# Altium schematic symbol library Schlib.SchLib: 44 symbols
Pins are listed as number, name and electrical type; pins without a type are passive.

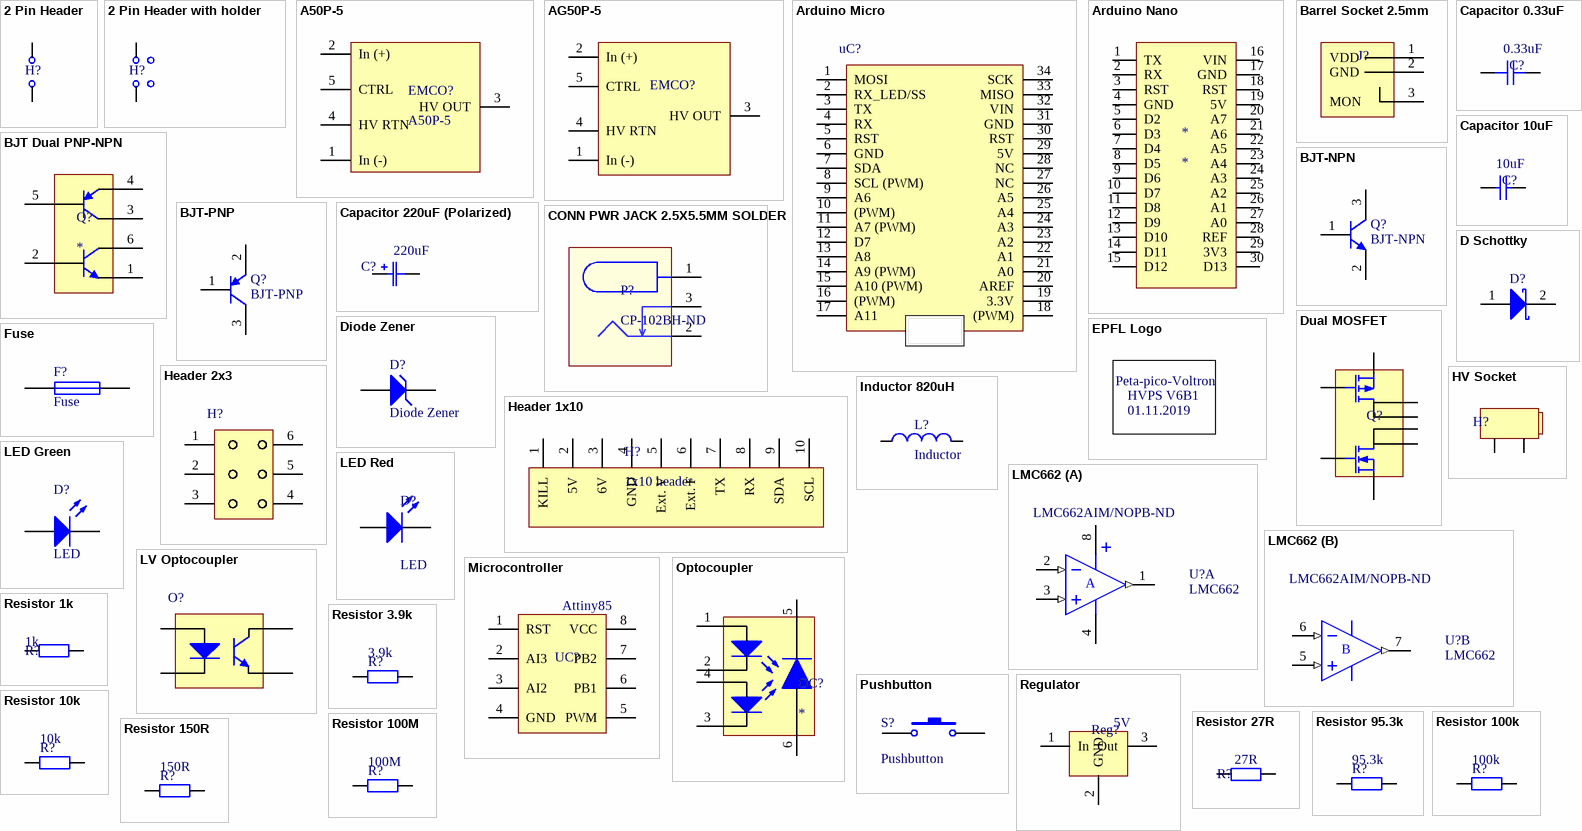
[diagram p0: symbols 2 Pin Header to Resistor 150R]

## 2 Pin Header
designator H?  (value not drawn)
Digikey: ‎SAM1121-02-ND‎ / Manufacturer: ‎SSA-102-S-G‎
footprint Header 1x2
pins: 1, 2

## 2 Pin Header with holder
designator H?  (value not drawn)
Digikey: ‎732-5316-ND‎ / Manufacturer: ‎61300311121‎
footprint Header 1x2 with holder
pins: 1, 2

## A50P-5
designator EMCO?
Digikey:1470-3201-NDManufacturer: A50P-5
footprint A50P-100V-5000V
pins: 1 In (-), 2 In (+), 3 HV OUT, 4 HV RTN, 5 CTRL

## AG50P-5
designator EMCO?  (value not drawn)
footprint AG50P-5 (1470-3217-ND)
pins: 1 In (-), 2 In (+), 3 HV OUT, 4 HV RTN, 5 CTRL

## Arduino Micro
designator uC?  (value not drawn)
Digikey: ‎929974-01-36-ND‎ / Manufacturer: ‎929974-01-36‎
footprint Arduino Nano
pins: 1 MOSI, 2 RX_LED/SS, 3 TX, 4 RX, 5 RST, 6 GND, 7 SDA, 8 SCL (PWM), 9 A6, 10 (PWM), 11 A7 (PWM), 12 D7, 13 A8, 14 A9 (PWM), 15 A10 (PWM), 16 (PWM), 17 A11, 18 (PWM), 19 3.3V, 20 AREF, 21 A0, 22 A1, 23 A2, 24 A3, 25 A4, 26 A5, 27 NC, 28 NC, 29 5V, 30 RST, 31 GND, 32 VIN, 33 MISO, 34 SCK

## Arduino Nano
designator *
footprint Arduino Nano
pins: 1 TX, 2 RX, 3 RST, 4 GND, 5 D2, 6 D3, 7 D4, 8 D5, 9 D6, 10 D7, 11 D8, 12 D9, 13 D10, 14 D11, 15 D12, 16 VIN, 17 GND, 18 RST, 19 5V, 20 A7, 21 A6, 22 A5, 23 A4, 24 A3, 25 A2, 26 A1, 27 A0, 28 REF, 29 3V3, 30 D13

## Barrel Socket 2.5mm
designator J?  (value not drawn)
footprint Barrel Socket 2.5mm
pins: 1 VDD, 2 GND, 3 MON

## BJT Dual PNP-NPN
designator Q?
footprint SOT457
pins: 1 25, 2 21, 3 23, 4 22, 5, 6 24

## BJT-NPN
designator Q?
NPN Bipolar Transistor; Published: 8-Jun-2000; LatestRevisionDate: 17-Jul-2002; LatestRevisionNote: Re-released for DXP Platform.; PackageReference: TO-226-AA; Publisher: Altium Limited; PackageDescription: TO, Flat Index; 3 In-Line, Axial Leads; Body Dia. 4.8mm; Leads 0.55 x 0.51 mm (max); Code_JEDEC: TO-226-AA
footprint TO-226-AA (TO, Flat Index; 3 In-Line, Axial Leads; Body Dia. 4.8mm; Leads 0.55 x 0.51 mm (max))
simulation model NPN
signal-integrity model NPN
pins: 1 B, 2 E, 3 C

## BJT-PNP
designator Q?
PNP Bipolar Transistor; Published: 8-Jun-2000; LatestRevisionDate: 29-May-2009; LatestRevisionNote: IPC-7351 Footprint Added.; PackageVersion: Aug-1999; PackageReference: SOT-23B; Publisher: Altium Limited; PackageDescription: 3-Pin SOT-23 Package 0.95 mm Pitch, 2.4 mm Lead Span
footprint SOT-23B_N (SOT23, 3-Leads, Body 2.9x1.3mm, Pitch 0.95mm, Lead Span 2.4mm, IPC Medium Density)
footprint SOT-23B_L (SOT23, 3-Leads, Body 2.9x1.3mm, Pitch 0.95mm, Lead Span 2.4mm, IPC High Density)
footprint SOT-23B_M (SOT23, 3-Leads, Body 2.9x1.3mm, Pitch 0.95mm, Lead Span 2.4mm, IPC Low Density)
simulation model PNP
signal-integrity model PNP
pins: 1 B, 2 E, 3 C

## Capacitor 0.33uF
designator C?  value 0.33uF  (hidden comment: Capacitor 0.33uF)
‎399-1285-1-ND‎ Manufacturer: ‎C1206C334K3RACTU‎
footprint 1206 CAP
pins: 1, 2

## Capacitor 10uF
designator C?, comment value 10uF  (hidden comment: Capacitor 0.1uF)
1276-3038-6-ND / Manufacturer: CL31A106KAHNFNE
footprint 1206 CAP
pins: 1, 2

## Capacitor 220uF (Polarized)
designator C?  value 220uF  (hidden comment: Capacitor 220uF (Polarized))
Digikey: ‎399-8415-1-ND‎ / Manufacturer: ‎T491X227K016AT‎; Published: 8-Jun-2000; LatestRevisionDate: 17-Jul-2002; LatestRevisionNote: Re-released for DXP Platform.; PackageReference: RB7.6-15; Publisher: Altium Limited; PackageDescription: Polarized Capacitor (Radial); 2 Leads
footprint SMD 7343 - Pol
pins: 1, 2
1 alternate drawing of the same symbol

## CONN PWR JACK 2.5X5.5MM SOLDER
designator P?, comment CP-102BH-ND
Digikey: ‎CP-102BH-ND‎ / Manufacturer: ‎PJ-102BH‎
footprint CONN PWR JACK 2.5X5.5MM SOLDER (CP-102BH-ND)
pins: 1, 2, 3

## D Schottky
designator D?
Digikey: ‎497-5574-1-ND‎ / Manufacturer: ‎STPS2L40U‎; Published: 8-Jun-2000; LatestRevisionDate: 17-Jul-2002; LatestRevisionNote: Re-released for DXP Platform.; PackageReference: SMB; Publisher: Altium Limited; PackageDescription: DO-214-AA/SMB; 2 C-Bend Leads; Body 5.3 x 3.6 mm, inc. leads (LxW); Code_JEDEC: DO-214-AA
footprint Schottky Diode
pins: 1 A, 2 K

## Diode Zener
designator D?
Zener Diode; Published: 8-Jun-2000; LatestRevisionDate: 17-Jul-2002; LatestRevisionNote: Re-released for DXP Platform.; PackageReference: DIODE-0.7; Publisher: Altium Limited; PackageDescription: Diode, Thru-Hole; 2 Leads; 0.7 in Pin Spacing
footprint DIODE-0.7 (Diode, Thru-Hole; 2 Leads; 0.7 in Pin Spacing)
simulation model ZENER (Diode)
signal-integrity model D Zener
pins: 1 A, 2 K

## Dual MOSFET
designator Q?  (value not drawn)
footprint SO-8
pins: 1, 2, 3, 4, 5, 6, 7, 8

## EPFL Logo
designator *  (value not drawn)
footprint LOGO (Peta-Pico-voltron LOGO)
text: Peta-pico-Voltron; HVPS V6B1; 01.11.2019

## Fuse
designator F?
Published: 8-Jun-2000; LatestRevisionDate: 17-Jul-2002; LatestRevisionNote: Re-released for DXP Platform.; PackageReference: PIN-W2/E2.8; Publisher: Altium Limited; PackageDescription: Thru-Hole; 2 Leads
footprint PIN-W2/E2.8 (Thru-Hole; 2 Leads)
simulation model FUSE (Spice Subcircuit)
pins: 1, 2

## Header 1x10
designator H?, comment 1x10 header
Digikey: ‎3M156872-36-ND‎ / Manufacturer: ‎929835-01-36-RK‎
footprint Header 1x10
pins: 1 KILL, 2 5V, 3 6V, 4 GND, 5 Ext. V, 6 Ext. F, 7 TX, 8 RX, 9 SDA, 10 SCL

## Header 2x3
designator H?, comment 2x3 pin header  (value not drawn)
Digikey: ‎952-2120-ND‎ / Manufacturer: ‎M20-9980345‎
footprint Header 2x3
pins: 1, 2, 3, 4, 5, 6

## HV Socket
designator H?  (value not drawn)
Black: 486-3654-ND / Red: ‎486-3655-ND‎
footprint HV Socket 2mm
pins: 1, 2

## Inductor 820uH
designator L?, comment Inductor
Digikey: ‎732-1701-1-ND‎ / Manufacturer: ‎7447709821‎; Value: 820u
footprint INDUCTOR_SMT_12MM (TO SUIT SRR1260-681KCT-ND)
pins: 1, 2

## LED Green
designator D?, comment LED
‎‎67-1002-1-ND‎‎ / Manufacturer: ‎‎SML-LX1206GW-TR‎‎
footprint 1206 - LED
pins: 1 A, 2 K

## LED Red
designator D?, comment LED
‎67-1003-1-ND‎ / Manufacturer: ‎SML-LX1206IW-TR‎
footprint 1206 - LED
pins: 1 A, 2 K

## LMC662
designator U?  Supplier Part Number 1: LMC662AIM/NOPB-ND
Dual CMOS Operational Amplifier; Manufacturer: Texas Instruments; Manufacturer Part Number: LMC662AIM/NOPB; Amplifier Type: General Purpose; Number of Circuits: 2; Output Type: Rail-to-Rail; Slew Rate: 1.1 V/µs; Gain Bandwidth Product: 1.4MHz; Current - Input Bias: 0.002pA; Voltage - Input Offset: 1mV; Current - Supply: 750µA; Current - Output / Channel: 40mA; Voltage - Supply, Single/Dual (±): 4.75 V ~ 15.5 V, ±2.38 V ~ 7.75 V; Supplier 1: Digi-Key; RoHS: RoHS Compliant; Category: Integrated Circuits (ICs); Stock 1: 2736; Pricing 1: 1=3.05, 10=2.736, 100=2.1988, 500=1.80652, 1000=1.29038 (NZD); Packaging: Tube; -3db Bandwidth: -; Operating Temperature: -40°C ~ 85°C; Mounting Type: Surface Mount; Package / Case: 8-SOIC (0.154", 3.90mm Width); Supplier Device Package: 8-SOIC; ComponentLink1URL: http://www.ti.com/lit/ds/symlink/lmc662.pdf; ComponentLink1Description: http://www.ti.com/lit/ds/symlink/lmc662.pdf
footprint SO-8
part A pins: 1 OUT (out), 2 IN- (in), 3 IN+ (in), 4 V- (power), 8 V+ (power)
part B pins: 5 IN+ (in), 6 IN- (in), 7 OUT (out)
part A text: A
part B text: B

## LV Optocoupler
designator O?  (value not drawn)
pins: 1, 2, 3, 4

## Microcontroller
designator UC?  value Attiny85  (hidden comment: Microcontroller)
footprint DIP8
pins: 1 RST, 2 AI3, 3 AI2, 4 GND, 5 PWM, 6 PB1, 7 PB2, 8 VCC

## Optocoupler
designator OC?
Manufacturer: OC100G
footprint OC100G
pins: 1 A, 2 K, 3 K, 4 A, 5 K, 6 A

## Pushbutton
designator S?
Digikey: ‎SW791-ND‎ / Manufacturer: ‎B3FS-1050‎
footprint pushbutton
pins: 1, 2, 3, 4

## Regulator
designator Reg?, comment value 5V  (hidden comment: Positive Voltage Regulator)
Digikey: ‎NCP1117ST50T3GOSCT-ND‎ / Manufacturer: ‎NCP1117ST50T3G‎
footprint SOT223
pins: 1 In, 2 GND, 3 Out

## Resistor 1k
designator R?, comment value 1k  (hidden comment: Resistor)
‎541-2245-1-ND‎ / Manufacturer: ‎RCA12061K00FKEA‎
footprint 1206 R
pins: 1, 2

## Resistor 3.9k
designator R?, comment value 3.9k  (hidden comment: Resistor)
footprint SMD 3225
pins: 1, 2

## Resistor 10k
designator R?, comment value 10k  (hidden comment: Resistor)
311-10KERCT-ND / Manufacturer: RC1206JR-0710KL
footprint 1206 R
pins: 1, 2

## Resistor 27R
designator R?, comment value 27R  (hidden comment: Resistor)
Manufacturer ‎HRG3216Q-27R0-D-T1‎ / Digikey ‎408-1908-1-ND
footprint 1206 R
pins: 1, 2

## Resistor 95.3k
designator R?, comment value 95.3k  (hidden comment: Resistor)
‎311-95.3KFRCT-ND‎ / Manufacturer: ‎RC1206FR-0795K3L‎
footprint 1206 R
pins: 1, 2

## Resistor 100k
designator R?, comment value 100k  (hidden comment: Resistor)
footprint SMD 3225
pins: 1, 2

## Resistor 100M
designator R?, comment value 100M  (hidden comment: Resistor)
Digikey:‎SM102031006FE-ND‎ / Manufacturer: ‎SM102031006FE-ND‎
footprint HV resistor
pins: 1, 2

## Resistor 150R
designator R?, comment value 150R  (hidden comment: Resistor)
‎CR1206-FX-1500ELFCT-ND‎ / Manufacturer: ‎CR1206-FX-1500ELF‎
footprint 1206 R
pins: 1, 2

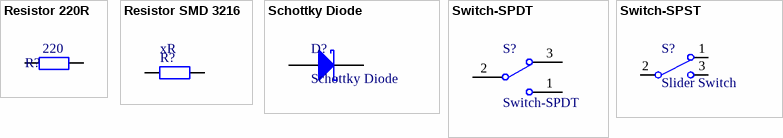
[diagram p1: symbols Resistor 220R to Switch-SPST]

## Resistor 220R
designator R?, comment value 220  (hidden comment: Resistor)
Manufacturer ‎ESR18EZPJ221‎ / Digikey ‎408-1908-1-ND
footprint 1206 R
pins: 1, 2

## Resistor SMD 3216
designator R?, comment value xR  (hidden comment: Resistor)
footprint SMD 3216
pins: 1, 2

## Schottky Diode
designator D?
pins: 1 A, 2 K

## Switch-SPDT
designator S?
SPDT Subminiature Toggle Switch, Right Angle Mounting, Vertical Actuation; Published: 24-Mar-1999; LatestRevisionDate: 17-Dec-2003; LatestRevisionNote: Schematic revised, PCB Footprint replaced.; DatasheetVersion: 05-Dec-2000; PackageReference: TL36WW15050; Publisher: Altium Limited; PackageDescription: Switch; 4 Leads; ComponentLink1Description: Manufacturer Link; ComponentLink1URL: http://www.apem.com
footprint TL36WW15050 (Switch; 4 Leads)
pins: 1, 2, 3

## Switch-SPST
designator S?, comment Slider Switch
Digikey: ‎563-1571-ND‎ / Manufacturer:‎ MHS122-1‎; Published: 24-Mar-1999; LatestRevisionDate: 17-Jul-2002; LatestRevisionNote: Re-released for DXP Platform.; PackageReference: SPST-2; Publisher: Altium Limited; PackageDescription: Switch; 2 Leads
footprint Slide Switch
pins: 1 COMMON, 2 NO, 3